# Altium footprint library BGA.PcbLib: 30 footprints (part 2 of 2)
Each footprint in its own frame and in the unit in brackets; x right, y up, seen from the top. Pads: shape width x height; smd on the part's side, far side on the other; paste and mask are expansions set on the pad; w line width, h text height; cw(c..) or ccw(c..) is an arc to the next point about the centre after c.
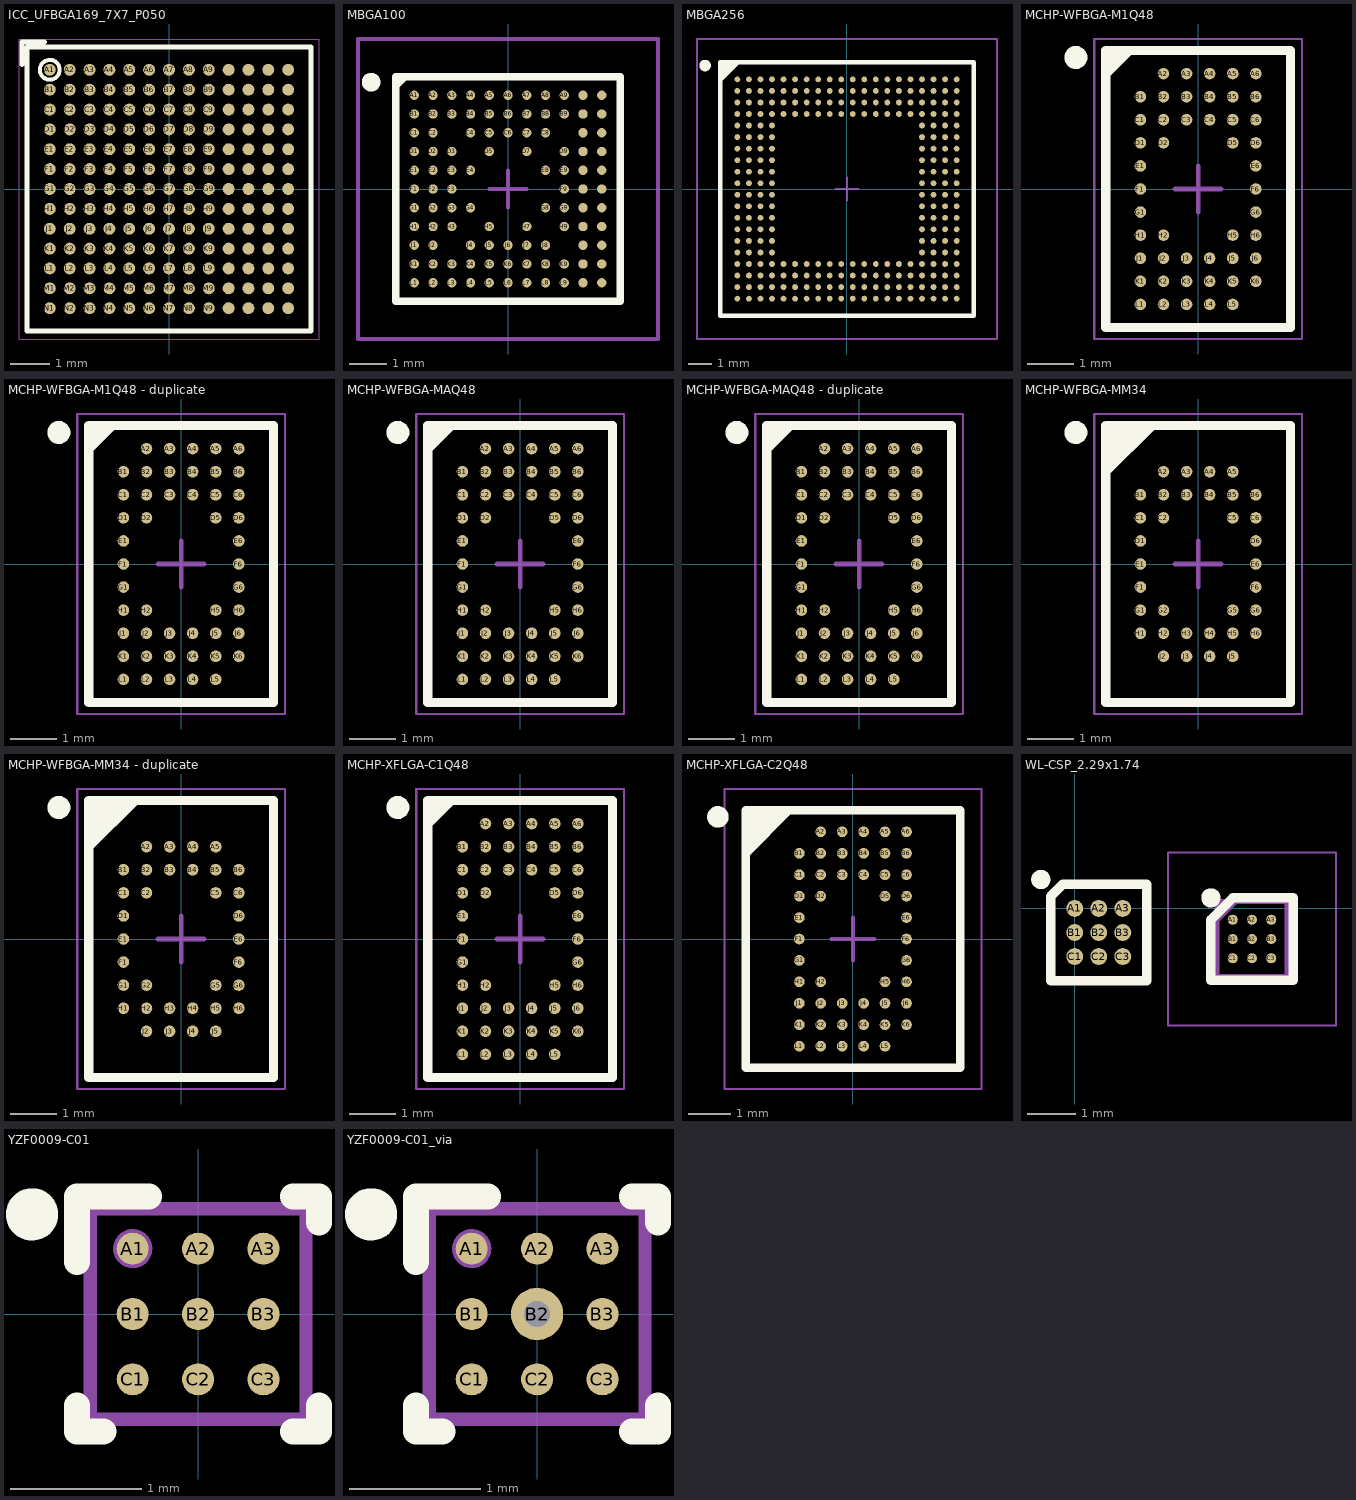
[diagram p1: the footprints below, top view; thin cyan lines are the x and y axes]

## ICC_UFBGA169_7X7_P050 [mm]
height 0.6
pads (169):
  round 0.3 smd mask+0.05: A1(-3,3) A2(-2.5,3) A3(-2,3) A4(-1.5,3) A5(-1,3) A6(-0.5,3) A7(0,3) A8(0.5,3) A9(1,3) A10(1.5,3) A11(2,3) A12(2.5,3) A13(3,3) B1(-3,2.5) B2(-2.5,2.5) B3(-2,2.5) B4(-1.5,2.5) B5(-1,2.5) B6(-0.5,2.5) B7(0,2.5) B8(0.5,2.5) B9(1,2.5) B10(1.5,2.5) B11(2,2.5) B12(2.5,2.5) B13(3,2.5) C1(-3,2) C2(-2.5,2) C3(-2,2) C4(-1.5,2) C5(-1,2) C6(-0.5,2) C7(0,2) C8(0.5,2) C9(1,2) C10(1.5,2) C11(2,2) C12(2.5,2) C13(3,2) D1(-3,1.5) D2(-2.5,1.5) D3(-2,1.5) D4(-1.5,1.5) D5(-1,1.5) D6(-0.5,1.5) D7(0,1.5) D8(0.5,1.5) D9(1,1.5) D10(1.5,1.5) D11(2,1.5) D12(2.5,1.5) D13(3,1.5) E1(-3,1) E2(-2.5,1) E3(-2,1) E4(-1.5,1) E5(-1,1) E6(-0.5,1) E7(0,1) E8(0.5,1) E9(1,1) E10(1.5,1) E11(2,1) E12(2.5,1) E13(3,1) F1(-3,0.5) F2(-2.5,0.5) F3(-2,0.5) F4(-1.5,0.5) F5(-1,0.5) F6(-0.5,0.5) F7(0,0.5) F8(0.5,0.5) F9(1,0.5) F10(1.5,0.5) F11(2,0.5) F12(2.5,0.5) F13(3,0.5) G1(-3,0) G2(-2.5,0) G3(-2,0) G4(-1.5,0) G5(-1,0) G6(-0.5,0) G7(0,0) G8(0.5,0) G9(1,0) G10(1.5,0) G11(2,0) G12(2.5,0) G13(3,0) H1(-3,-0.5) H2(-2.5,-0.5) H3(-2,-0.5) H4(-1.5,-0.5) H5(-1,-0.5) H6(-0.5,-0.5) H7(0,-0.5) H8(0.5,-0.5) H9(1,-0.5) H10(1.5,-0.5) H11(2,-0.5) H12(2.5,-0.5) H13(3,-0.5) J1(-3,-1) J2(-2.5,-1) J3(-2,-1) J4(-1.5,-1) J5(-1,-1) J6(-0.5,-1) J7(0,-1) J8(0.5,-1) J9(1,-1) J10(1.5,-1) J11(2,-1) J12(2.5,-1) J13(3,-1) K1(-3,-1.5) K2(-2.5,-1.5) K3(-2,-1.5) K4(-1.5,-1.5) K5(-1,-1.5) K6(-0.5,-1.5) K7(0,-1.5) K8(0.5,-1.5) K9(1,-1.5) K10(1.5,-1.5) K11(2,-1.5) K12(2.5,-1.5) K13(3,-1.5) L1(-3,-2) L2(-2.5,-2) L3(-2,-2) L4(-1.5,-2) L5(-1,-2) L6(-0.5,-2) L7(0,-2) L8(0.5,-2) L9(1,-2) L10(1.5,-2) L11(2,-2) L12(2.5,-2) L13(3,-2) M1(-3,-2.5) M2(-2.5,-2.5) M3(-2,-2.5) M4(-1.5,-2.5) M5(-1,-2.5) M6(-0.5,-2.5) M7(0,-2.5) M8(0.5,-2.5) M9(1,-2.5) M10(1.5,-2.5) M11(2,-2.5) M12(2.5,-2.5) M13(3,-2.5) N1(-3,-3) N2(-2.5,-3) N3(-2,-3) N4(-1.5,-3) N5(-1,-3) N6(-0.5,-3) N7(0,-3) N8(0.5,-3) N9(1,-3) N10(1.5,-3) N11(2,-3) N12(2.5,-3) N13(3,-3)
Top Overlay:
  circle w0.1: c-3,3 r0.25
  lines w0.12: -3.7,3.125 -3.7,3.7 -3.125,3.7 ; -3.575,-3.575 3.575,-3.575 3.575,3.575 -3.575,3.575 -3.575,-3.575
Mechanical 20:
  lines w0.01: -3.775,-3.775 -3.775,3.775 3.775,3.775 3.775,-3.775 -3.775,-3.775
Mechanical 27:
  circle w0.01: c-3,3 r0.25
  lines w0.01: -3.575,-3.575 3.575,-3.575 3.575,3.575 -3.575,3.575 -3.575,-3.575
  text "A1" at 2.425,3.775 h0.3
3D body: height 0.61, standoff 0.6, extent -3.298,2.701 -2.7,3.3
3D body: height 0.6, standoff 0, extent -3.575,-3.575 3.575,3.575

## MBGA100 [mm] "BGA, 100-Leads, Body 6x6mm, Pitch 0.5mm"
height 1.2
pads (100):
  round 0.25 smd: A1(-2.5,2.5) A2(-2,2.5) A3(-1.5,2.5) A4(-1,2.5) A5(-0.5,2.5) A6(0,2.5) A7(0.5,2.5) A8(1,2.5) A9(1.5,2.5) A10(2,2.5) A11(2.5,2.5) B1(-2.5,2) B2(-2,2) B3(-1.5,2) B4(-1,2) B5(-0.5,2) B6(0,2) B7(0.5,2) B8(1,2) B9(1.5,2) B10(2,2) B11(2.5,2) C1(-2.5,1.5) C2(-2,1.5) C4(-1,1.5) C5(-0.5,1.5) C6(0,1.5) C7(0.5,1.5) C8(1,1.5) C10(2,1.5) C11(2.5,1.5) D1(-2.5,1) D2(-2,1) D3(-1.5,1) D5(-0.5,1) D7(0.5,1) D9(1.5,1) D10(2,1) D11(2.5,1) E1(-2.5,0.5) E2(-2,0.5) E3(-1.5,0.5) E4(-1,0.5) E8(1,0.5) E9(1.5,0.5) E10(2,0.5) E11(2.5,0.5) F1(-2.5,0) F2(-2,0) F3(-1.5,0) F9(1.5,0) F10(2,0) F11(2.5,0) G1(-2.5,-0.5) G2(-2,-0.5) G3(-1.5,-0.5) G4(-1,-0.5) G8(1,-0.5) G9(1.5,-0.5) G10(2,-0.5) G11(2.5,-0.5) H1(-2.5,-1) H2(-2,-1) H3(-1.5,-1) H5(-0.5,-1) H7(0.5,-1) H9(1.5,-1) H10(2,-1) H11(2.5,-1) J1(-2.5,-1.5) J2(-2,-1.5) J4(-1,-1.5) J5(-0.5,-1.5) J6(0,-1.5) J7(0.5,-1.5) J8(1,-1.5) J10(2,-1.5) J11(2.5,-1.5) K1(-2.5,-2) K2(-2,-2) K3(-1.5,-2) K4(-1,-2) K5(-0.5,-2) K6(0,-2) K7(0.5,-2) K8(1,-2) K9(1.5,-2) K10(2,-2) K11(2.5,-2) L1(-2.5,-2.5) L2(-2,-2.5) L3(-1.5,-2.5) L4(-1,-2.5) L5(-0.5,-2.5) L6(0,-2.5) L7(0.5,-2.5) L8(1,-2.5) L9(1.5,-2.5) L10(2,-2.5) L11(2.5,-2.5)
Top Overlay:
  circle w0.25: c-3.65,2.85 r0.125
  region: -2.742,3 -3,2.742 -3,3
  lines w0.2: -3,2.742 -2.742,3 ; -3,-3 -3,3 3,3 3,-3 -3,-3
Mechanical 13:
  lines w0.1: -3,-3 -3,3 3,3 3,-3 -3,-3
Mechanical 15:
  lines w0.1: -0.5,0 0.5,0 ; 0,-0.5 0,0.5 ; -4,-4 -4,4 4,4 4,-4 -4,-4
3D body: height 1.2, standoff 0, extent -3,-3 3,3

## MBGA256 [mm] "BGA, 256-Leads, Body 11x11mm, Pitch 0.5mm"
height 1.2
pads (256):
  round 0.25 smd: A1(-4.75,4.75) A2(-4.25,4.75) A3(-3.75,4.75) A4(-3.25,4.75) A5(-2.75,4.75) A6(-2.25,4.75) A7(-1.75,4.75) A8(-1.25,4.75) A9(-0.75,4.75) A10(-0.25,4.75) A11(0.25,4.75) A12(0.75,4.75) A13(1.25,4.75) A14(1.75,4.75) A15(2.25,4.75) A16(2.75,4.75) A17(3.25,4.75) A18(3.75,4.75) A19(4.25,4.75) A20(4.75,4.75) B1(-4.75,4.25) B2(-4.25,4.25) B3(-3.75,4.25) B4(-3.25,4.25) B5(-2.75,4.25) B6(-2.25,4.25) B7(-1.75,4.25) B8(-1.25,4.25) B9(-0.75,4.25) B10(-0.25,4.25) B11(0.25,4.25) B12(0.75,4.25) B13(1.25,4.25) B14(1.75,4.25) B15(2.25,4.25) B16(2.75,4.25) B17(3.25,4.25) B18(3.75,4.25) B19(4.25,4.25) B20(4.75,4.25) C1(-4.75,3.75) C2(-4.25,3.75) C3(-3.75,3.75) C4(-3.25,3.75) C5(-2.75,3.75) C6(-2.25,3.75) C7(-1.75,3.75) C8(-1.25,3.75) C9(-0.75,3.75) C10(-0.25,3.75) C11(0.25,3.75) C12(0.75,3.75) C13(1.25,3.75) C14(1.75,3.75) C15(2.25,3.75) C16(2.75,3.75) C17(3.25,3.75) C18(3.75,3.75) C19(4.25,3.75) C20(4.75,3.75) D1(-4.75,3.25) D2(-4.25,3.25) D3(-3.75,3.25) D4(-3.25,3.25) D5(-2.75,3.25) D6(-2.25,3.25) D7(-1.75,3.25) D8(-1.25,3.25) D9(-0.75,3.25) D10(-0.25,3.25) D11(0.25,3.25) D12(0.75,3.25) D13(1.25,3.25) D14(1.75,3.25) D15(2.25,3.25) D16(2.75,3.25) D17(3.25,3.25) D18(3.75,3.25) D19(4.25,3.25) D20(4.75,3.25) E1(-4.75,2.75) E2(-4.25,2.75) E3(-3.75,2.75) E4(-3.25,2.75) E17(3.25,2.75) E18(3.75,2.75) E19(4.25,2.75) E20(4.75,2.75) F1(-4.75,2.25) F2(-4.25,2.25) F3(-3.75,2.25) F4(-3.25,2.25) F17(3.25,2.25) F18(3.75,2.25) F19(4.25,2.25) F20(4.75,2.25) G1(-4.75,1.75) G2(-4.25,1.75) G3(-3.75,1.75) G4(-3.25,1.75) G17(3.25,1.75) G18(3.75,1.75) G19(4.25,1.75) G20(4.75,1.75) H1(-4.75,1.25) H2(-4.25,1.25) H3(-3.75,1.25) H4(-3.25,1.25) H17(3.25,1.25) H18(3.75,1.25) H19(4.25,1.25) H20(4.75,1.25) J1(-4.75,0.75) J2(-4.25,0.75) J3(-3.75,0.75) J4(-3.25,0.75) J17(3.25,0.75) J18(3.75,0.75) J19(4.25,0.75) J20(4.75,0.75) K1(-4.75,0.25) K2(-4.25,0.25) K3(-3.75,0.25) K4(-3.25,0.25) K17(3.25,0.25) K18(3.75,0.25) K19(4.25,0.25) K20(4.75,0.25) L1(-4.75,-0.25) L2(-4.25,-0.25) L3(-3.75,-0.25) L4(-3.25,-0.25) L17(3.25,-0.25) L18(3.75,-0.25) L19(4.25,-0.25) L20(4.75,-0.25) M1(-4.75,-0.75) M2(-4.25,-0.75) M3(-3.75,-0.75) M4(-3.25,-0.75) M17(3.25,-0.75) M18(3.75,-0.75) M19(4.25,-0.75) M20(4.75,-0.75) N1(-4.75,-1.25) N2(-4.25,-1.25) N3(-3.75,-1.25) N4(-3.25,-1.25) N17(3.25,-1.25) N18(3.75,-1.25) N19(4.25,-1.25) N20(4.75,-1.25) P1(-4.75,-1.75) P2(-4.25,-1.75) P3(-3.75,-1.75) P4(-3.25,-1.75) P17(3.25,-1.75) P18(3.75,-1.75) P19(4.25,-1.75) P20(4.75,-1.75) R1(-4.75,-2.25) R2(-4.25,-2.25) R3(-3.75,-2.25) R4(-3.25,-2.25) R17(3.25,-2.25) R18(3.75,-2.25) R19(4.25,-2.25) R20(4.75,-2.25) T1(-4.75,-2.75) T2(-4.25,-2.75) T3(-3.75,-2.75) T4(-3.25,-2.75) T17(3.25,-2.75) T18(3.75,-2.75) T19(4.25,-2.75) T20(4.75,-2.75) U1(-4.75,-3.25) U2(-4.25,-3.25) U3(-3.75,-3.25) U4(-3.25,-3.25) U5(-2.75,-3.25) U6(-2.25,-3.25) U7(-1.75,-3.25) U8(-1.25,-3.25) U9(-0.75,-3.25) U10(-0.25,-3.25) U11(0.25,-3.25) U12(0.75,-3.25) U13(1.25,-3.25) U14(1.75,-3.25) U15(2.25,-3.25) U16(2.75,-3.25) U17(3.25,-3.25) U18(3.75,-3.25) U19(4.25,-3.25) U20(4.75,-3.25) V1(-4.75,-3.75) V2(-4.25,-3.75) V3(-3.75,-3.75) V4(-3.25,-3.75) V5(-2.75,-3.75) V6(-2.25,-3.75) V7(-1.75,-3.75) V8(-1.25,-3.75) V9(-0.75,-3.75) V10(-0.25,-3.75) V11(0.25,-3.75) V12(0.75,-3.75) V13(1.25,-3.75) V14(1.75,-3.75) V15(2.25,-3.75) V16(2.75,-3.75) V17(3.25,-3.75) V18(3.75,-3.75) V19(4.25,-3.75) V20(4.75,-3.75) W1(-4.75,-4.25) W2(-4.25,-4.25) W3(-3.75,-4.25) W4(-3.25,-4.25) W5(-2.75,-4.25) W6(-2.25,-4.25) W7(-1.75,-4.25) W8(-1.25,-4.25) W9(-0.75,-4.25) W10(-0.25,-4.25) W11(0.25,-4.25) W12(0.75,-4.25) W13(1.25,-4.25) W14(1.75,-4.25) W15(2.25,-4.25) W16(2.75,-4.25) W17(3.25,-4.25) W18(3.75,-4.25) W19(4.25,-4.25) W20(4.75,-4.25) Y1(-4.75,-4.75) Y2(-4.25,-4.75) Y3(-3.75,-4.75) Y4(-3.25,-4.75) Y5(-2.75,-4.75) Y6(-2.25,-4.75) Y7(-1.75,-4.75) Y8(-1.25,-4.75) Y9(-0.75,-4.75) Y10(-0.25,-4.75) Y11(0.25,-4.75) Y12(0.75,-4.75) Y13(1.25,-4.75) Y14(1.75,-4.75) Y15(2.25,-4.75) Y16(2.75,-4.75) Y17(3.25,-4.75) Y18(3.75,-4.75) Y19(4.25,-4.75) Y20(4.75,-4.75)
Top Overlay:
  circle w0.25: c-6.15,5.35 r0.125
  region: -4.742,5.5 -5.5,4.742 -5.5,5.5
  lines w0.2: -5.5,4.742 -4.742,5.5 ; -5.5,-5.5 -5.5,5.5 5.5,5.5 5.5,-5.5 -5.5,-5.5
Mechanical 13:
  lines w0.1: -5.5,-5.5 -5.5,5.5 5.5,5.5 5.5,-5.5 -5.5,-5.5
Mechanical 15:
  lines w0.1: -0.5,0 0.5,0 ; 0,-0.5 0,0.5 ; -6.5,-6.5 -6.5,6.5 6.5,6.5 6.5,-6.5 -6.5,-6.5
3D body: height 1.2, standoff 0, extent -5.499,-5.499 5.499,5.499

## MCHP-WFBGA-M1Q48 [mm] "BGA, 48-Balls, Body 6x4mm, Pitch 0.5mm"
height 0.73
pads (48):
  round 0.25 smd: A2(-0.75,2.5) A3(-0.25,2.5) A4(0.25,2.5) A5(0.75,2.5) A6(1.25,2.5) B1(-1.25,2) B2(-0.75,2) B3(-0.25,2) B4(0.25,2) B5(0.75,2) B6(1.25,2) C1(-1.25,1.5) C2(-0.75,1.5) C3(-0.25,1.5) C4(0.25,1.5) C5(0.75,1.5) C6(1.25,1.5) D1(-1.25,1) D2(-0.75,1) D5(0.75,1) D6(1.25,1) E1(-1.25,0.5) E6(1.25,0.5) F1(-1.25,0) F6(1.25,0) G1(-1.25,-0.5) G6(1.25,-0.5) H1(-1.25,-1) H2(-0.75,-1) H5(0.75,-1) H6(1.25,-1) J1(-1.25,-1.5) J2(-0.75,-1.5) J3(-0.25,-1.5) J4(0.25,-1.5) J5(0.75,-1.5) J6(1.25,-1.5) K1(-1.25,-2) K2(-0.75,-2) K3(-0.25,-2) K4(0.25,-2) K5(0.75,-2) K6(1.25,-2) L1(-1.25,-2.5) L2(-0.75,-2.5) L3(-0.25,-2.5) L4(0.25,-2.5) L5(0.75,-2.5)
Top Overlay:
  circle w0.25: c-2.65,2.85 r0.125
  region: -1.492,3 -2,2.492 -2,3
  lines w0.2: -2,2.492 -1.492,3 ; -2,-3 2,-3 2,3 -2,3 -2,-3
Mechanical 13:
  lines w0.1: -2,-3 2,-3 2,3 -2,3 -2,-3
Mechanical 15:
  lines w0.05: -2.25,-3.25 2.25,-3.25 2.25,3.25 -2.25,3.25 -2.25,-3.25
  lines w0.1: -0.5,0 0.5,0 ; 0,-0.5 0,0.5
3D body: height 0.73, standoff 0.14, extent -2,-3 2,3

## MCHP-WFBGA-M1Q48 - duplicate [mm] "BGA, 48-Balls, Body 6x4mm, Pitch 0.5mm"
height 0.73
pads (48):
  round 0.25 smd: A2(-0.75,2.5) A3(-0.25,2.5) A4(0.25,2.5) A5(0.75,2.5) A6(1.25,2.5) B1(-1.25,2) B2(-0.75,2) B3(-0.25,2) B4(0.25,2) B5(0.75,2) B6(1.25,2) C1(-1.25,1.5) C2(-0.75,1.5) C3(-0.25,1.5) C4(0.25,1.5) C5(0.75,1.5) C6(1.25,1.5) D1(-1.25,1) D2(-0.75,1) D5(0.75,1) D6(1.25,1) E1(-1.25,0.5) E6(1.25,0.5) F1(-1.25,0) F6(1.25,0) G1(-1.25,-0.5) G6(1.25,-0.5) H1(-1.25,-1) H2(-0.75,-1) H5(0.75,-1) H6(1.25,-1) J1(-1.25,-1.5) J2(-0.75,-1.5) J3(-0.25,-1.5) J4(0.25,-1.5) J5(0.75,-1.5) J6(1.25,-1.5) K1(-1.25,-2) K2(-0.75,-2) K3(-0.25,-2) K4(0.25,-2) K5(0.75,-2) K6(1.25,-2) L1(-1.25,-2.5) L2(-0.75,-2.5) L3(-0.25,-2.5) L4(0.25,-2.5) L5(0.75,-2.5)
Top Overlay:
  circle w0.25: c-2.65,2.85 r0.125
  region: -1.492,3 -2,2.492 -2,3
  lines w0.2: -2,2.492 -1.492,3 ; -2,-3 2,-3 2,3 -2,3 -2,-3
Mechanical 13:
  lines w0.1: -2,-3 2,-3 2,3 -2,3 -2,-3
Mechanical 15:
  lines w0.05: -2.25,-3.25 2.25,-3.25 2.25,3.25 -2.25,3.25 -2.25,-3.25
  lines w0.1: -0.5,0 0.5,0 ; 0,-0.5 0,0.5
3D body: height 0.73, standoff 0.14, extent -2,-3 2,3

## MCHP-WFBGA-MAQ48 [mm] "BGA, 48-Balls, Body 6x4mm, Pitch 0.5mm"
height 0.73
pads (48):
  round 0.25 smd: A2(-0.75,2.5) A3(-0.25,2.5) A4(0.25,2.5) A5(0.75,2.5) A6(1.25,2.5) B1(-1.25,2) B2(-0.75,2) B3(-0.25,2) B4(0.25,2) B5(0.75,2) B6(1.25,2) C1(-1.25,1.5) C2(-0.75,1.5) C3(-0.25,1.5) C4(0.25,1.5) C5(0.75,1.5) C6(1.25,1.5) D1(-1.25,1) D2(-0.75,1) D5(0.75,1) D6(1.25,1) E1(-1.25,0.5) E6(1.25,0.5) F1(-1.25,0) F6(1.25,0) G1(-1.25,-0.5) G6(1.25,-0.5) H1(-1.25,-1) H2(-0.75,-1) H5(0.75,-1) H6(1.25,-1) J1(-1.25,-1.5) J2(-0.75,-1.5) J3(-0.25,-1.5) J4(0.25,-1.5) J5(0.75,-1.5) J6(1.25,-1.5) K1(-1.25,-2) K2(-0.75,-2) K3(-0.25,-2) K4(0.25,-2) K5(0.75,-2) K6(1.25,-2) L1(-1.25,-2.5) L2(-0.75,-2.5) L3(-0.25,-2.5) L4(0.25,-2.5) L5(0.75,-2.5)
Top Overlay:
  circle w0.25: c-2.65,2.85 r0.125
  region: -1.492,3 -2,2.492 -2,3
  lines w0.2: -2,2.492 -1.492,3 ; -2,-3 -2,3 2,3 2,-3 -2,-3
Mechanical 13:
  lines w0.1: -2,-3 -2,3 2,3 2,-3 -2,-3
Mechanical 15:
  lines w0.05: -2.25,-3.25 -2.25,3.25 2.25,3.25 2.25,-3.25 -2.25,-3.25
  lines w0.1: -0.5,0 0.5,0 ; 0,-0.5 0,0.5
3D body: height 0.73, standoff 0.14, extent -2,-3 2,3

## MCHP-WFBGA-MAQ48 - duplicate [mm] "BGA, 48-Balls, Body 6x4mm, Pitch 0.5mm"
height 0.73
pads (48):
  round 0.25 smd: A2(-0.75,2.5) A3(-0.25,2.5) A4(0.25,2.5) A5(0.75,2.5) A6(1.25,2.5) B1(-1.25,2) B2(-0.75,2) B3(-0.25,2) B4(0.25,2) B5(0.75,2) B6(1.25,2) C1(-1.25,1.5) C2(-0.75,1.5) C3(-0.25,1.5) C4(0.25,1.5) C5(0.75,1.5) C6(1.25,1.5) D1(-1.25,1) D2(-0.75,1) D5(0.75,1) D6(1.25,1) E1(-1.25,0.5) E6(1.25,0.5) F1(-1.25,0) F6(1.25,0) G1(-1.25,-0.5) G6(1.25,-0.5) H1(-1.25,-1) H2(-0.75,-1) H5(0.75,-1) H6(1.25,-1) J1(-1.25,-1.5) J2(-0.75,-1.5) J3(-0.25,-1.5) J4(0.25,-1.5) J5(0.75,-1.5) J6(1.25,-1.5) K1(-1.25,-2) K2(-0.75,-2) K3(-0.25,-2) K4(0.25,-2) K5(0.75,-2) K6(1.25,-2) L1(-1.25,-2.5) L2(-0.75,-2.5) L3(-0.25,-2.5) L4(0.25,-2.5) L5(0.75,-2.5)
Top Overlay:
  circle w0.25: c-2.65,2.85 r0.125
  region: -1.492,3 -2,2.492 -2,3
  lines w0.2: -2,2.492 -1.492,3 ; -2,-3 2,-3 2,3 -2,3 -2,-3
Mechanical 13:
  lines w0.1: -2,-3 2,-3 2,3 -2,3 -2,-3
Mechanical 15:
  lines w0.05: -2.25,-3.25 2.25,-3.25 2.25,3.25 -2.25,3.25 -2.25,-3.25
  lines w0.1: -0.5,0 0.5,0 ; 0,-0.5 0,0.5
3D body: height 0.73, standoff 0.14, extent -2,-3 2,3

## MCHP-WFBGA-MM34 [mm] "BGA, 34-Balls, Body 6x4mm, Pitch 0.5mm"
height 0.73
pads (34):
  round 0.25 smd: A2(-0.75,2) A3(-0.25,2) A4(0.25,2) A5(0.75,2) B1(-1.25,1.5) B2(-0.75,1.5) B3(-0.25,1.5) B4(0.25,1.5) B5(0.75,1.5) B6(1.25,1.5) C1(-1.25,1) C2(-0.75,1) C5(0.75,1) C6(1.25,1) D1(-1.25,0.5) D6(1.25,0.5) E1(-1.25,0) E6(1.25,0) F1(-1.25,-0.5) F6(1.25,-0.5) G1(-1.25,-1) G2(-0.75,-1) G5(0.75,-1) G6(1.25,-1) H1(-1.25,-1.5) H2(-0.75,-1.5) H3(-0.25,-1.5) H4(0.25,-1.5) H5(0.75,-1.5) H6(1.25,-1.5) J2(-0.75,-2) J3(-0.25,-2) J4(0.25,-2) J5(0.75,-2)
Top Overlay:
  circle w0.25: c-2.65,2.85 r0.125
  region: -1,3 -2,2 -2,3
  lines w0.2: -2,2 -1,3 ; -2,-3 -2,3 2,3 2,-3 -2,-3
Mechanical 13:
  lines w0.1: -2,-3 -2,3 2,3 2,-3 -2,-3
Mechanical 15:
  lines w0.05: -2.25,-3.25 -2.25,3.25 2.25,3.25 2.25,-3.25 -2.25,-3.25
  lines w0.1: -0.5,0 0.5,0 ; 0,-0.5 0,0.5
3D body: height 0.73, standoff 0.14, extent -2,-3 2,3

## MCHP-WFBGA-MM34 - duplicate [mm] "BGA, 34-Balls, Body 6x4mm, Pitch 0.5mm"
height 0.73
pads (34):
  round 0.25 smd: A2(-0.75,2) A3(-0.25,2) A4(0.25,2) A5(0.75,2) B1(-1.25,1.5) B2(-0.75,1.5) B3(-0.25,1.5) B4(0.25,1.5) B5(0.75,1.5) B6(1.25,1.5) C1(-1.25,1) C2(-0.75,1) C5(0.75,1) C6(1.25,1) D1(-1.25,0.5) D6(1.25,0.5) E1(-1.25,0) E6(1.25,0) F1(-1.25,-0.5) F6(1.25,-0.5) G1(-1.25,-1) G2(-0.75,-1) G5(0.75,-1) G6(1.25,-1) H1(-1.25,-1.5) H2(-0.75,-1.5) H3(-0.25,-1.5) H4(0.25,-1.5) H5(0.75,-1.5) H6(1.25,-1.5) J2(-0.75,-2) J3(-0.25,-2) J4(0.25,-2) J5(0.75,-2)
Top Overlay:
  circle w0.25: c-2.65,2.85 r0.125
  region: -1,3 -2,2 -2,3
  lines w0.2: -2,2 -1,3 ; -2,-3 2,-3 2,3 -2,3 -2,-3
Mechanical 13:
  lines w0.1: -2,-3 2,-3 2,3 -2,3 -2,-3
Mechanical 15:
  lines w0.05: -2.25,-3.25 2.25,-3.25 2.25,3.25 -2.25,3.25 -2.25,-3.25
  lines w0.1: -0.5,0 0.5,0 ; 0,-0.5 0,0.5
3D body: height 0.73, standoff 0.14, extent -2,-3 2,3

## MCHP-XFLGA-C1Q48 [mm] "BGA, 48-Balls, Body 6x4mm, Pitch 0.5mm"
height 0.52
pads (48):
  round 0.25 smd: A2(-0.75,2.5) A3(-0.25,2.5) A4(0.25,2.5) A5(0.75,2.5) A6(1.25,2.5) B1(-1.25,2) B2(-0.75,2) B3(-0.25,2) B4(0.25,2) B5(0.75,2) B6(1.25,2) C1(-1.25,1.5) C2(-0.75,1.5) C3(-0.25,1.5) C4(0.25,1.5) C5(0.75,1.5) C6(1.25,1.5) D1(-1.25,1) D2(-0.75,1) D5(0.75,1) D6(1.25,1) E1(-1.25,0.5) E6(1.25,0.5) F1(-1.25,0) F6(1.25,0) G1(-1.25,-0.5) G6(1.25,-0.5) H1(-1.25,-1) H2(-0.75,-1) H5(0.75,-1) H6(1.25,-1) J1(-1.25,-1.5) J2(-0.75,-1.5) J3(-0.25,-1.5) J4(0.25,-1.5) J5(0.75,-1.5) J6(1.25,-1.5) K1(-1.25,-2) K2(-0.75,-2) K3(-0.25,-2) K4(0.25,-2) K5(0.75,-2) K6(1.25,-2) L1(-1.25,-2.5) L2(-0.75,-2.5) L3(-0.25,-2.5) L4(0.25,-2.5) L5(0.75,-2.5)
Top Overlay:
  circle w0.25: c-2.65,2.85 r0.125
  region: -1.492,3 -2,2.492 -2,3
  lines w0.2: -2,2.492 -1.492,3 ; -2,-3 -2,3 2,3 2,-3 -2,-3
Mechanical 13:
  lines w0.1: -2,-3 -2,3 2,3 2,-3 -2,-3
Mechanical 15:
  lines w0.05: -2.25,-3.25 -2.25,3.25 2.25,3.25 2.25,-3.25 -2.25,-3.25
  lines w0.1: -0.5,0 0.5,0 ; 0,-0.5 0,0.5
3D body: height 0.52, standoff 0.03, extent -2,-3 2,3

## MCHP-XFLGA-C2Q48 [mm] "BGA, 48-Balls, Body 6x5mm, Pitch 0.5mm"
height 0.52
pads (48):
  round 0.25 smd: A2(-0.75,2.5) A3(-0.25,2.5) A4(0.25,2.5) A5(0.75,2.5) A6(1.25,2.5) B1(-1.25,2) B2(-0.75,2) B3(-0.25,2) B4(0.25,2) B5(0.75,2) B6(1.25,2) C1(-1.25,1.5) C2(-0.75,1.5) C3(-0.25,1.5) C4(0.25,1.5) C5(0.75,1.5) C6(1.25,1.5) D1(-1.25,1) D2(-0.75,1) D5(0.75,1) D6(1.25,1) E1(-1.25,0.5) E6(1.25,0.5) F1(-1.25,0) F6(1.25,0) G1(-1.25,-0.5) G6(1.25,-0.5) H1(-1.25,-1) H2(-0.75,-1) H5(0.75,-1) H6(1.25,-1) J1(-1.25,-1.5) J2(-0.75,-1.5) J3(-0.25,-1.5) J4(0.25,-1.5) J5(0.75,-1.5) J6(1.25,-1.5) K1(-1.25,-2) K2(-0.75,-2) K3(-0.25,-2) K4(0.25,-2) K5(0.75,-2) K6(1.25,-2) L1(-1.25,-2.5) L2(-0.75,-2.5) L3(-0.25,-2.5) L4(0.25,-2.5) L5(0.75,-2.5)
Top Overlay:
  circle w0.25: c-3.15,2.85 r0.125
  region: -1.5,3 -2.5,2 -2.5,3
  lines w0.2: -2.5,2 -1.5,3 ; -2.5,-3 -2.5,3 2.5,3 2.5,-3 -2.5,-3
Mechanical 13:
  lines w0.1: -2.5,-3 -2.5,3 2.5,3 2.5,-3 -2.5,-3
Mechanical 15:
  lines w0.05: -3,-3.5 -3,3.5 3,3.5 3,-3.5 -3,-3.5
  lines w0.1: -0.5,0 0.5,0 ; 0,-0.5 0,0.5
3D body: height 0.52, standoff 0.03, extent -2.5,-3 2.5,3

## WL-CSP_2.29x1.74 [mm]
pads (18):
  round 0.35 smd: A1(0,0) A2(0.5,0) A3(1,0) B1(0,-0.5) B2(0.5,-0.5) B3(1,-0.5) C1(0,-1) C2(0.5,-1) C3(1,-1)
  round 0.208 smd: A1(3.283,-0.235) A2(3.683,-0.235) A3(4.083,-0.235) B1(3.283,-0.635) B2(3.683,-0.635) B3(4.083,-0.635) C1(3.283,-1.035) C2(3.683,-1.035) C3(4.083,-1.035)
Top Overlay:
  circle w0.2: c-0.704,0.601 r0.1
  circle w0.2: c2.829,0.219 r0.1
  lines w0.2: -0.5,-1.5 1.5,-1.5 1.5,0.5 -0.25,0.5 -0.5,0.25 -0.5,-1.5 ; 2.829,-1.489 4.537,-1.489 4.537,0.219 3.283,0.219 2.829,-0.235 2.829,-1.489
Mechanical 13:
  lines w0.1: 2.953,-0.251 3.351,0.147 ; 2.953,-1.417 4.413,-1.417 4.413,0.147 2.953,0.147 2.953,-1.417
Mechanical 15:
  lines w0.05: 1.938,-2.432 5.428,-2.432 5.428,1.162 1.938,1.162 1.938,-2.432
3D body "STC3117IJT.stp": height 0.65, standoff 0, extent 2.953,-1.417 4.413,0.147

## YZF0009-C01 [mm] "BGA, 9-Leads, Body 1.6205x1.58mm, Pitch 0.5mm"
height 0.625
pads (9):
  round 0.245 smd paste-0.15: A1(-0.5,0.5) A2(0,0.5) A3(0.5,0.5) B1(-0.5,0) B2(0,0) B3(0.5,0) C1(-0.5,-0.5) C2(0,-0.5) C3(0.5,-0.5)
Top Overlay:
  circle w0.2: c-1.27,0.762 r0.1
  lines w0.2: -0.925,-0.7 -0.925,-0.9 -0.725,-0.9 ; -0.925,0.4 -0.925,0.9 -0.375,0.9 ; 0.725,-0.9 0.925,-0.9 0.925,-0.7 ; 0.725,0.9 0.925,0.9 0.925,0.7
Top Paste:
  circle w0.05: c0.075,0.075 r0.025
  circle w0.05: c-0.075,0.075 r0.025
  circle w0.05: c-0.075,-0.075 r0.025
  circle w0.05: c0.075,-0.075 r0.025
  circle w0.05: c0.575,-0.075 r0.025
  circle w0.05: c0.425,-0.075 r0.025
  circle w0.05: c0.425,0.075 r0.025
  circle w0.05: c0.575,0.075 r0.025
  circle w0.05: c-0.425,-0.075 r0.025
  circle w0.05: c-0.575,-0.075 r0.025
  circle w0.05: c-0.575,0.075 r0.025
  circle w0.05: c-0.425,0.075 r0.025
  circle w0.05: c-0.425,0.425 r0.025
  circle w0.05: c-0.575,0.425 r0.025
  circle w0.05: c-0.575,0.575 r0.025
  circle w0.05: c-0.425,0.575 r0.025
  circle w0.05: c0.075,0.425 r0.025
  circle w0.05: c-0.075,0.425 r0.025
  circle w0.05: c-0.075,0.575 r0.025
  circle w0.05: c0.075,0.575 r0.025
  circle w0.05: c0.575,0.425 r0.025
  circle w0.05: c0.425,0.425 r0.025
  circle w0.05: c0.425,0.575 r0.025
  circle w0.05: c0.575,0.575 r0.025
  circle w0.05: c-0.425,-0.575 r0.025
  circle w0.05: c-0.575,-0.575 r0.025
  circle w0.05: c-0.575,-0.425 r0.025
  circle w0.05: c-0.425,-0.425 r0.025
  circle w0.05: c0.075,-0.575 r0.025
  circle w0.05: c-0.075,-0.575 r0.025
  circle w0.05: c-0.075,-0.425 r0.025
  circle w0.05: c0.075,-0.425 r0.025
  circle w0.05: c0.575,-0.575 r0.025
  circle w0.05: c0.425,-0.575 r0.025
  circle w0.05: c0.425,-0.425 r0.025
  circle w0.05: c0.575,-0.425 r0.025
  rectangle: -0.125,-0.075 0.125,0.075
  region: 0.075,-0.125 0.075,0.125 -0.075,0.125 -0.075,-0.125
  region: 0.575,-0.125 0.575,0.125 0.425,0.125 0.425,-0.125
  rectangle: 0.375,-0.075 0.625,0.075
  region: -0.425,-0.125 -0.425,0.125 -0.575,0.125 -0.575,-0.125
  rectangle: -0.625,-0.075 -0.375,0.075
  region: -0.425,0.375 -0.425,0.625 -0.575,0.625 -0.575,0.375
  rectangle: -0.625,0.425 -0.375,0.575
  region: 0.075,0.375 0.075,0.625 -0.075,0.625 -0.075,0.375
  rectangle: -0.125,0.425 0.125,0.575
  region: 0.575,0.375 0.575,0.625 0.425,0.625 0.425,0.375
  rectangle: 0.375,0.425 0.625,0.575
  region: -0.425,-0.625 -0.425,-0.375 -0.575,-0.375 -0.575,-0.625
  rectangle: -0.625,-0.575 -0.375,-0.425
  region: 0.075,-0.625 0.075,-0.375 -0.075,-0.375 -0.075,-0.625
  rectangle: -0.125,-0.575 0.125,-0.425
  region: 0.575,-0.625 0.575,-0.375 0.425,-0.375 0.425,-0.625
  rectangle: 0.375,-0.575 0.625,-0.425
Mechanical 5:
  circle w0.1: c-0.5,0.5 r0.1
  lines w0.1: -0.825,-0.805 0.825,-0.805 0.825,0.805 -0.825,0.805 -0.825,-0.805
3D body: height 0.63, standoff 0, extent -0.824,-0.804 0.824,0.804
3D body: height 0.63, standoff 0, extent -0.599,0.401 -0.401,0.599

## YZF0009-C01_via [mm] "BGA, 9-Leads, Body 1.6205x1.58mm, Pitch 0.5mm"
height 0.625
pads (9):
  round 0.245 smd paste-0.15: A1(-0.5,0.5) A2(0,0.5) A3(0.5,0.5) B1(-0.5,0) B3(0.5,0) C1(-0.5,-0.5) C2(0,-0.5) C3(0.5,-0.5)
  round 0.4 hole 0.2 paste-0.15 mask-0.025: B2(0,0)
Top Overlay:
  circle w0.2: c-1.27,0.762 r0.1
  lines w0.2: -0.925,-0.7 -0.925,-0.9 -0.725,-0.9 ; -0.925,0.4 -0.925,0.9 -0.375,0.9 ; 0.725,-0.9 0.925,-0.9 0.925,-0.7 ; 0.725,0.9 0.925,0.9 0.925,0.7
Top Paste:
  circle w0.05: c0.075,0.075 r0.025
  circle w0.05: c-0.075,0.075 r0.025
  circle w0.05: c-0.075,-0.075 r0.025
  circle w0.05: c0.075,-0.075 r0.025
  circle w0.05: c0.575,-0.075 r0.025
  circle w0.05: c0.425,-0.075 r0.025
  circle w0.05: c0.425,0.075 r0.025
  circle w0.05: c0.575,0.075 r0.025
  circle w0.05: c-0.425,-0.075 r0.025
  circle w0.05: c-0.575,-0.075 r0.025
  circle w0.05: c-0.575,0.075 r0.025
  circle w0.05: c-0.425,0.075 r0.025
  circle w0.05: c-0.425,0.425 r0.025
  circle w0.05: c-0.575,0.425 r0.025
  circle w0.05: c-0.575,0.575 r0.025
  circle w0.05: c-0.425,0.575 r0.025
  circle w0.05: c0.075,0.425 r0.025
  circle w0.05: c-0.075,0.425 r0.025
  circle w0.05: c-0.075,0.575 r0.025
  circle w0.05: c0.075,0.575 r0.025
  circle w0.05: c0.575,0.425 r0.025
  circle w0.05: c0.425,0.425 r0.025
  circle w0.05: c0.425,0.575 r0.025
  circle w0.05: c0.575,0.575 r0.025
  circle w0.05: c-0.425,-0.575 r0.025
  circle w0.05: c-0.575,-0.575 r0.025
  circle w0.05: c-0.575,-0.425 r0.025
  circle w0.05: c-0.425,-0.425 r0.025
  circle w0.05: c0.075,-0.575 r0.025
  circle w0.05: c-0.075,-0.575 r0.025
  circle w0.05: c-0.075,-0.425 r0.025
  circle w0.05: c0.075,-0.425 r0.025
  circle w0.05: c0.575,-0.575 r0.025
  circle w0.05: c0.425,-0.575 r0.025
  circle w0.05: c0.425,-0.425 r0.025
  circle w0.05: c0.575,-0.425 r0.025
  rectangle: -0.125,-0.075 0.125,0.075
  region: 0.075,-0.125 0.075,0.125 -0.075,0.125 -0.075,-0.125
  region: 0.575,-0.125 0.575,0.125 0.425,0.125 0.425,-0.125
  rectangle: 0.375,-0.075 0.625,0.075
  region: -0.425,-0.125 -0.425,0.125 -0.575,0.125 -0.575,-0.125
  rectangle: -0.625,-0.075 -0.375,0.075
  region: -0.425,0.375 -0.425,0.625 -0.575,0.625 -0.575,0.375
  rectangle: -0.625,0.425 -0.375,0.575
  region: 0.075,0.375 0.075,0.625 -0.075,0.625 -0.075,0.375
  rectangle: -0.125,0.425 0.125,0.575
  region: 0.575,0.375 0.575,0.625 0.425,0.625 0.425,0.375
  rectangle: 0.375,0.425 0.625,0.575
  region: -0.425,-0.625 -0.425,-0.375 -0.575,-0.375 -0.575,-0.625
  rectangle: -0.625,-0.575 -0.375,-0.425
  region: 0.075,-0.625 0.075,-0.375 -0.075,-0.375 -0.075,-0.625
  rectangle: -0.125,-0.575 0.125,-0.425
  region: 0.575,-0.625 0.575,-0.375 0.425,-0.375 0.425,-0.625
  rectangle: 0.375,-0.575 0.625,-0.425
Mechanical 5:
  circle w0.1: c-0.5,0.5 r0.1
  lines w0.1: -0.825,-0.805 0.825,-0.805 0.825,0.805 -0.825,0.805 -0.825,-0.805
3D body: height 0.63, standoff 0, extent -0.824,-0.804 0.824,0.804
3D body: height 0.63, standoff 0, extent -0.599,0.401 -0.401,0.599